# Altium schematic symbol library TLP7930.SchLib: 2 symbols
Pins are listed as number, name and electrical type; pins without a type are passive.

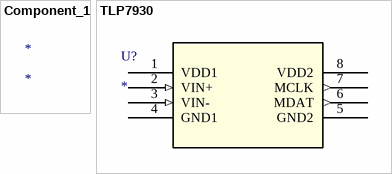
[diagram p0: symbols Component_1 to TLP7930]

## Component_1
designator *

## TLP7930
designator U?
No Description Available; Mfr_Name: Toshiba Electronic Devices & Storage Corp.; RefDes: RefDes; Type: Type
footprint DIP8_TOS
pins: 1 VDD1 (power), 2 VIN+ (in), 3 VIN- (in), 4 GND1 (power), 5 GND2 (power), 6 MDAT (out), 7 MCLK (out), 8 VDD2 (power)